# Altium schematic symbol library FB.Schlib: 1 symbol
Pins are listed as number, name and electrical type; pins without a type are passive.

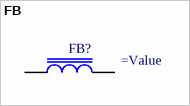
[diagram p0: symbol FB]

## FB
designator FB?
=Description
pins: 1, 2